# Altium integrated library IGBT.IntLib: 2 symbols
Pins are listed as number, name and electrical type; pins without a type are passive.

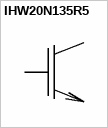
[diagram p0: symbol IHW20N135R5]

## IHW20N135R5
designator VT?  (value not drawn)
Manufacturer: Inferon; Value: IHW20N135R5; Rem: *; Package: TO-247; Tolerance: *; Power/Voltage: *; TKE: *; ManufacturerPartNumber: IHW20N135R5; Quantity: *; Примечание: *
footprint TO_247
footprint TO_247_FaseDown
footprint TO_247_FaseUp
pins: 1 G, 2 C, 3 E

## РЫБА
designator C?  (value not drawn)
Rem: *; Package: *; Value: *; Tolerance: *; Power/Voltage: *; TKE: *; ManufacturerPartNumber: *; Manufacturer: *; Quantity: *; Примечание: *